# EAGLE library part BOB_ARM_LQFP48_STM32F103XXX_CIRCULAR (library CEDT_JANUARY_2015_v6)
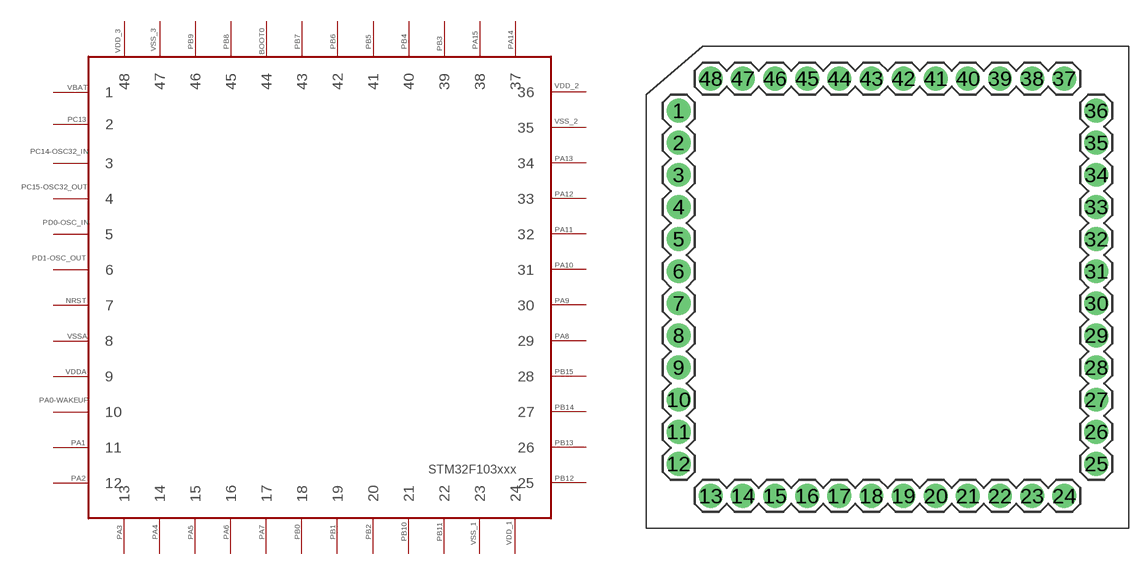
[diagram p41: symbol with the pads of BOB_LQFP48_CIRCULAR; footprint BOB_LQFP48_CIRCULAR]

Designator prefix -

## BOB_ARM_LQFP48_STM32F103XXX_CIRCULAR  [BOB_LQFP48_CIRCULAR]
1  1  pas
2  2  pas
3  3  pas
4  4  pas
5  5  pas
6  6  pas
7  7  pas
8  8  pas
9  9  pas
10  10  pas
11  11  pas
12  12  pas
13  13  pas
14  14  pas
15  15  pas
16  16  pas
17  17  pas
18  18  pas
19  19  pas
20  20  pas
21  21  pas
22  22  pas
23  23  pas
24  24  pas
25  25  pas
26  26  pas
27  27  pas
28  28  pas
29  29  pas
30  30  pas
31  31  pas
32  32  pas
33  33  pas
34  34  pas
35  35  pas
36  36  pas
37  37  pas
38  38  pas
39  39  pas
40  40  pas
41  41  pas
42  42  pas
43  43  pas
44  44  pas
45  45  pas
46  46  pas
47  47  pas
48  48  pas

## Footprint BOB_LQFP48_CIRCULAR (pad centres in mm)
48-pin Low Profile Quad Flat Pack
drill 1.016 pad 1.88: 1 -16.51,12.7; 2 -16.51,10.16; 3 -16.51,7.62; 4 -16.51,5.08; 5 -16.51,2.54; 6 -16.51,0; 7 -16.51,-2.54; 8 -16.51,-5.08; 9 -16.51,-7.62; 10 -16.51,-10.16; 11 -16.51,-12.7; 12 -16.51,-15.24; 13 -13.97,-17.78; 14 -11.43,-17.78; 15 -8.89,-17.78; 16 -6.35,-17.78; 17 -3.81,-17.78; 18 -1.27,-17.78; 19 1.27,-17.78; 20 3.81,-17.78; 21 6.35,-17.78; 22 8.89,-17.78; 23 11.43,-17.78; 24 13.97,-17.78; 25 16.51,-15.24; 26 16.51,-12.7; 27 16.51,-10.16; 28 16.51,-7.62; 29 16.51,-5.08; 30 16.51,-2.54; 31 16.51,0; 32 16.51,2.54; 33 16.51,5.08; 34 16.51,7.62; 35 16.51,10.16; 36 16.51,12.7; 37 13.97,15.24; 38 11.43,15.24; 39 8.89,15.24; 40 6.35,15.24; 41 3.81,15.24; 42 1.27,15.24; 43 -1.27,15.24; 44 -3.81,15.24; 45 -6.35,15.24; 46 -8.89,15.24; 47 -11.43,15.24; 48 -13.97,15.24